# Altium schematic symbol library schematics_library_legacy.schlib: 63 symbols
Pins are listed as number, name and electrical type; pins without a type are passive.

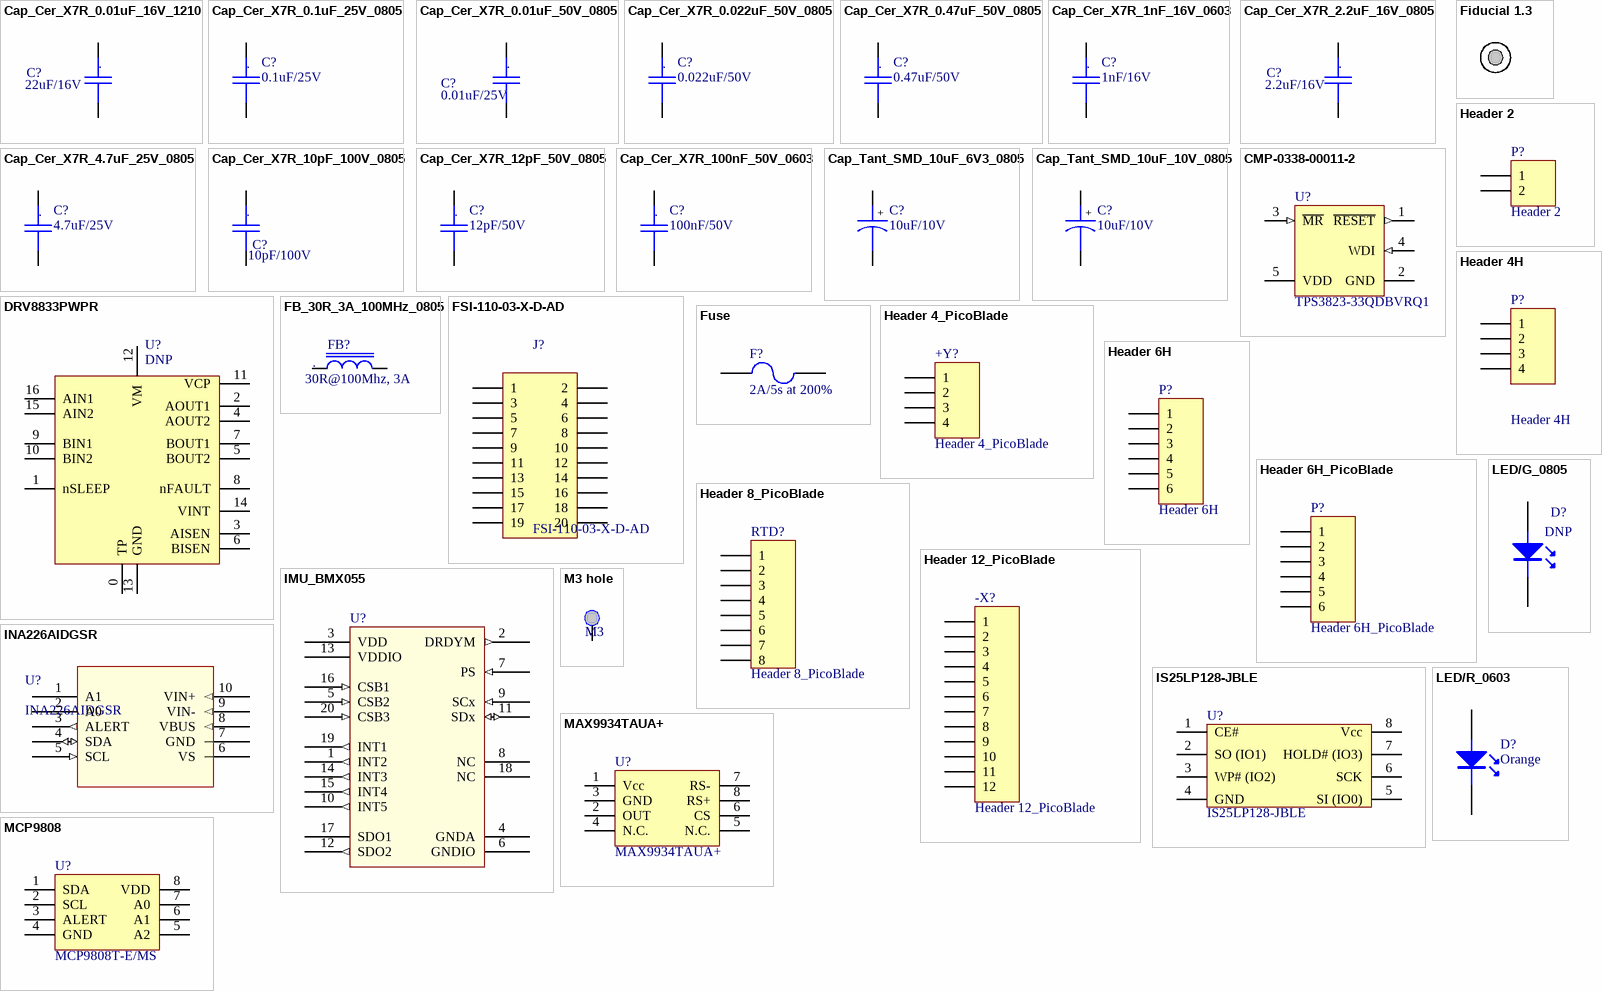
[diagram p0: symbols Cap_Cer_X7R_0.01uF_16V_1210 to MCP9808]

## Cap_Cer_X7R_0.01uF_16V_1210
designator C?, comment 22uF/16V
CAP CER 22uF 16V 10% X7R 1210; Partnumber: CRCW08051M00FKEAC; NCM: 8532.24.10
footprint CC1210 (TDK mlccspec_commercial_general_midvoltage_en.pdf)
pins: 1, 2
text: .

## Cap_Cer_X7R_0.1uF_25V_0805
designator C?, comment 0.1uF/25V
CAP CER 0.1UF 25V 10% X7R 0805; Partnumber: CC0805KRX7R8BB104; NCM: 8532.24.10
footprint CC0805 (TDK mlccspec_commercial_general_midvoltage_en.pdf)
pins: 1, 2
text: .

## Cap_Cer_X7R_0.01uF_50V_0805
designator C?, comment 0.01uF/25V
CAP CER 0.01uF 25V 10% X7R 0805; Partnumber: CL21B103KAANNNC; NCM: 8532.24.10
footprint CC0805 (TDK mlccspec_commercial_general_midvoltage_en.pdf)
pins: 1, 2
text: .

## Cap_Cer_X7R_0.022uF_50V_0805
designator C?, comment 0.022uF/50V
CAP CER 0.022UF 50V 5% X7R 0805; Partnumber: CGA4J2C0G1H223J125AA; NCM: 8532.24.10
footprint CC0805 (TDK mlccspec_commercial_general_midvoltage_en.pdf)
pins: 1, 2
text: .

## Cap_Cer_X7R_0.47uF_50V_0805
designator C?, comment 0.47uF/50V
CAP CER 0.47UF 50V 10% X7R 0805; Partnumber: C0805C474K5RACTU; NCM: 8532.24.10
footprint CC0805 (TDK mlccspec_commercial_general_midvoltage_en.pdf)
pins: 1, 2
text: .

## Cap_Cer_X7R_1nF_16V_0603
designator C?, comment 1nF/16V
CAP CER 1nF 16V 0603 5%; Partnumber: C0603X102J4RECAUTO; NCM: 8532.24.10
footprint CC0805
pins: 1, 2
text: .

## Cap_Cer_X7R_2.2uF_16V_0805
designator C?, comment 2.2uF/16V
CAP CER 2.2uF 16V 10% X7R 0805; Partnumber: EMF212B7225KGHT
footprint CC0805 (TDK mlccspec_commercial_general_midvoltage_en.pdf)
pins: 1, 2
text: .

## Cap_Cer_X7R_4.7uF_25V_0805
designator C?, comment 4.7uF/25V
CAP CER 4.7UF 25V 10% X7R 0805; Partnumber: C0805C475K3RACAUTO; NCM: 8532.24.10
footprint CC0805 (TDK mlccspec_commercial_general_midvoltage_en.pdf)
pins: 1, 2
text: .

## Cap_Cer_X7R_10pF_100V_0805
designator C?, comment 10pF/100V
CAP CER 10pF 100V 0805; Partnumber: 08051A100FAT2A; NCM: 8532.24.10
footprint CC0805 (TDK mlccspec_commercial_general_midvoltage_en.pdf)
pins: 1, 2
text: .

## Cap_Cer_X7R_12pF_50V_0805
designator C?, comment 12pF/50V
CAP CER 12pF 50V 0805; Partnumber: CL21C120FBANNNC; NCM: 8532.24.10
footprint CC0805 (TDK mlccspec_commercial_general_midvoltage_en.pdf)
pins: 1, 2
text: .

## Cap_Cer_X7R_100nF_50V_0603
designator C?, comment 100nF/50V
CAP CER 100nF 50V 0603 10%; Partnumber: C0603C104K5RAC3121; NCM: 8532.24.10
footprint CC0805
pins: 1, 2
text: .

## Cap_Tant_SMD_10uF_6V3_0805
designator C?, comment 10uF/10V
CAP Tantalum 10uF 6.3V 10% 0805; Partnumber: TPSR106K006R1000; NCM: 8532.21.11
footprint CC0805_Tantalum (TDK mlccspec_commercial_general_midvoltage_en.pdf)
pins: 1, 2
text: +

## Cap_Tant_SMD_10uF_10V_0805
designator C?, comment 10uF/10V
CAP Tantalum 10uF 10V 20% 0805; Partnumber: TPSP106M010R2000; NCM: 8532.21.11
footprint CC0805_Tantalum (TDK mlccspec_commercial_general_midvoltage_en.pdf)
pins: 1, 2
text: +

## CMP-0338-00011-2
designator U?, comment TPS3823-33QDBVRQ1
Processor Supervisory Circuit, 1 Supply Monitored, -40 to 85 degC, 5-Pin SOT-23 (DBV), Green (RoHS & no Sb/Br); Manufacturer: Texas Instruments; Iq: 15 uA Typ.; Threshold Voltage: 2.93 V Typ.; Watchdog Timer WDI: 0.2 s; VCC: 1.1 V Min.; Reset Threshold Accuracy: 2.4%; Rating: Catalog; Time Delay: 25 ms; # of Supplies Monitored: 1; Output Driver Type / Reset Output: Active-low, Push-pull; Packing: Tape and Reel; ComponentLink1Description: Manufacturer URL; RoHS: TRUE; PackageDescription: 5-Pin Plastic Small Outline, Body 1.6 x 2.9 mm, Pitch 0.95 mm; Mounting Technology: Surface Mount; ComponentLink1URL: www.ti.com; PackageReference: DBV0005A; ComponentLink3URL: http://www.ti.com/lit/ml/mpds018j/mpds018j.pdf; ComponentLink3Description: Package Specification; PartNumber: TPS3823-33QDBVRQ1; DatasheetVersion: SLVS165J; ComponentLink2Description: Datasheet; PackageVersion: 4073253-4/L; ComponentLink2URL: http://www.ti.com/lit/ds/symlink/tps3820-33.pdf; Operating Temperature Range: -40 to 85 degC
footprint DBV0005A_L (SOT23, 5-Leads, Body 3.05x1.75mm, Pitch 0.95mm, IPC High Density)
footprint DBV0005A_M (SOT23, 5-Leads, Body 3.05x1.75mm, Pitch 0.95mm, IPC Low Density)
footprint DBV0005A_N (SOT23, 5-Leads, Body 3.05x1.75mm, Pitch 0.95mm, IPC Medium Density)
pins: 1 ~{RESET} (out), 2 GND (power), 3 ~{MR} (in), 4 WDI (in), 5 VDD (power)

## DRV8833PWPR
designator U?, comment DNP
DRV8833PWPR; Partnumber: DRV8833PWPR
footprint 16TTSSOP
pins: 0 TP, 1 nSLEEP, 2 AOUT1, 3 AISEN, 4 AOUT2, 5 BOUT2, 6 BISEN, 7 BOUT1, 8 nFAULT, 9 BIN1, 10 BIN2, 11 VCP, 12 VM, 13 GND, 14 VINT, 15 AIN2, 16 AIN1

## FB_30R_3A_100MHz_0805
designator FB?, comment 30R@100Mhz, 3A
Ferrite Bead 30 OHM 3A 100MHz; Partnumber: BLM21PG300SN1D; NCM: 8504.50.00
footprint IND0805
pins: 1, 2
text: .

## Fiducial 1.3
designator FD?  (value not drawn)  (no BOM)
Fiducial 1.3mm
footprint Fiducial 1.3mm

## FSI-110-03-X-D-AD
designator J?
Contact Connector; Partnumber: FSI-110-03-G-D-AD; Value: *
footprint FSI-110-03-X-D-AD
pins: 1, 2, 3, 4, 5, 6, 7, 8, 9, 10, 11, 12, 13, 14, 15, 16, 17, 18, 19, 20

## Fuse
designator F?, comment 2A/5s at 200%
Surface Mount Fuses SMD 1206 Fast Action 2A; PartNumber: SF-1206FP200-2
footprint 1206
pins: 1, 2

## Header 2
designator P?
Header, 2-Pin; PartNumber: 826646-2; LatestRevisionDate: 17-Jul-2002; LatestRevisionNote: Re-released for DXP Platform.; Publisher: Altium Limited
signal-integrity model Connector
footprint HDR 1X2
pins: 1, 2

## Header 4_PicoBlade
designator +Y?
Header, 4-Pin; PartNumber: 53398-0471; Manufacturer: Molex; Body Plating: Tin; Number of Positions: 4; Gender: Male; Current Rating: 1A; Voltage Rating: 125V; Contact Resistance: 20mR; Insulation Resistance: 100MR; Pitch: 1.25mm; Glow Wire Compliant: Non-compliant; LatestRevisionDate: 17-Jul-2002; LatestRevisionNote: Re-released for DXP Platform.; Publisher: Altium Limited; Supplier 1: Mouser; Supplier Part Number 1: 538-53398-0471; Stock 1: 43251; Pricing 1: 1=0.98, 10=0.832, 100=0.716, 500=0.6, 1000=0.391, 2000=0.342 (USD); Mount: Surface Mount; Contact Plating: Tin; Contact Material: Bronze,Tin,Brass; Color: Natural; Housing Material: Nylon; Housing Color: Natural; Min Operating Temperature: -40°C; Max Operating Temperature: 85°C; Termination: Solder; Number of Rows: 1; Packaging: Tape and Reel; Number of Contacts: 4; Orientation: Vertical; Package Quantity: 1000; Number of Circuits: 4; Voltage Rating (AC): 125V; Working Voltage: 125V; Voltage Rating (DC): 125V; Lead Pitch: 1.25mm; Radiation Hardening: No; REACH SVHC: Unknown; Lead Free: Lead Free; Flammability Rating: UL94 V-0; ComponentLink1URL: http://www.mouser.com/ds/2/276/0533980471_PCB_HEADERS-171069.pdf?src-supplier=Mouser; ComponentLink1Description: http://www.mouser.com/ds/2/276/0533980471_PCB_HEADERS-171069.pdf?src-supplier=Mouser; ComponentLink2URL: http://www.jameco.com/Jameco/Products/ProdDS/1932627.pdf?src-supplier=Jameco; ComponentLink2Description: http://www.jameco.com/Jameco/Products/ProdDS/1932627.pdf?src-supplier=Jameco; ComponentLink3URL: https://www.distrelec.biz/Web/Downloads/46/_e/gf116833-116846_e.pdf?mime=application%2Fpdf&src-supplier=Distrelec; ComponentLink3Description: https://www.distrelec.biz/Web/Downloads/46/_e/gf116833-116846_e.pdf?mime=application%2Fpdf&src-supplier=Distrelec; ComponentLink4URL: http://www.molex.com/webdocs/datasheets/pdf/en-us/0533980471_PCB_HEADERS.pdf?src-supplier=Element14; ComponentLink4Description: http://www.molex.com/webdocs/datasheets/pdf/en-us/0533980471_PCB_HEADERS.pdf?src-supplier=Element14; ComponentLink5URL: http://www.farnell.com/datasheets/1867381.pdf?src-supplier=Element14; ComponentLink5Description: http://www.farnell.com/datasheets/1867381.pdf?src-supplier=Element14; ComponentLink6URL: http://uk.rs-online.com/webdocs/13c4/0900766b813c4500.pdf?src-supplier=RSComponents; ComponentLink6Description: http://uk.rs-online.com/webdocs/13c4/0900766b813c4500.pdf?src-supplier=RSComponents; ComponentLink7URL: http://www.molex.com/webdocs/datasheets/pdf/en-us/0533980471_PCB_HEADERS.pdf?src-supplier=Farnell; ComponentLink7Description: http://www.molex.com/webdocs/datasheets/pdf/en-us/0533980471_PCB_HEADERS.pdf?src-supplier=Farnell; ComponentLink8URL: http://www.farnell.com/datasheets/2697809.pdf?src-supplier=Element14; ComponentLink8Description: http://www.farnell.com/datasheets/2697809.pdf?src-supplier=Element14; ComponentLink9URL: http://www.molex.com/webdocs/datasheets/pdf/en-us/0533980471_PCB_HEADERS.pdf?src-supplier=Avnet; ComponentLink9Description: http://www.molex.com/webdocs/datasheets/pdf/en-us/0533980471_PCB_HEADERS.pdf?src-supplier=Avnet; ComponentLink10URL: http://www.molex.com/webdocs/datasheets/pdf/en-us/0533980471_PCB_HEADERS.pdf?src-supplier=Avnet+Europe; ComponentLink10Description: http://www.molex.com/webdocs/datasheets/pdf/en-us/0533980471_PCB_HEADERS.pdf?src-supplier=Avnet+Europe; Supplier 2: Digi-Key; Supplier Part Number 2: WM7608CT-ND; Stock 2: 20817; Pricing 2: 1=1.19, 10=1.044, 100=0.901, 500=0.73716 (USD); Manufacturer Part Number: 53398-0471
footprint HDR4 PicoBlade
signal-integrity model Connector
pins: 1, 2, 3, 4

## Header 4H
designator P?
Header, 4-Pin; LatestRevisionDate: 17-Jul-2002; LatestRevisionNote: Re-released for DXP Platform.; Publisher: Altium Limited
signal-integrity model Connector
footprint HDR1X4 (Connector; Header; 4 Position)
pins: 1, 2, 3, 4

## Header 6H
designator P?
Header, 6-Pin, Right Angle; LatestRevisionDate: 17-Jul-2002; LatestRevisionNote: Re-released for DXP Platform.; Publisher: Altium Limited
footprint HDR1X6H (Connector; Header; 6 Position; Right Angle)
signal-integrity model Connector
pins: 1, 2, 3, 4, 5, 6

## Header 6H_PicoBlade
designator P?
Header, 6-Pin, Right Angle; Partnumber: 53398-0671; LatestRevisionDate: 17-Jul-2002; LatestRevisionNote: Re-released for DXP Platform.; Publisher: Altium Limited
footprint HDR6 PicoBlade
signal-integrity model Connector
pins: 1, 2, 3, 4, 5, 6

## Header 8_PicoBlade
designator RTD?
Header, 8-Pin; PartNumber: 53261-0871; Manufacturer: Molex; Number of Contacts: 8; Contact Resistance: 20mR; Gender: Male; Current Rating: 1A; Voltage Rating: 125V; Insulation Resistance: 100MR; Pitch: 1.25mm; Glow Wire Compliant: Non-compliant; LatestRevisionDate: 17-Jul-2002; LatestRevisionNote: Re-released for DXP Platform.; Publisher: Altium Limited; Supplier 1: Mouser; Supplier Part Number 1: 538-53261-0871; Stock 1: 13055; Pricing 1: 1=1.31, 10=1.15, 100=0.991, 500=0.832, 1000=0.42, 2000=0.367 (USD); Mount: Surface Mount; Contact Plating: Tin; Contact Material: Bronze,Brass,Tin; Color: Beige; Housing Material: Thermoplastic; Min Operating Temperature: -40°C; Max Operating Temperature: 85°C; Termination: Solder; Number of Rows: 1; Orientation: Right Angle; Packaging: Tape and Reel; Number of Positions: 8; Package Quantity: 1000; Number of Circuits: 8; Voltage Rating (AC): 125V; Working Voltage: 125V; Voltage Rating (DC): 125V; Lead Pitch: 1.25mm; Radiation Hardening: No; REACH SVHC: Unknown; Lead Free: Lead Free; Flammability Rating: UL94 V-0; ComponentLink1URL: http://uk.rs-online.com/webdocs/13c4/0900766b813c44c3.pdf?src-supplier=RSComponents; ComponentLink1Description: http://uk.rs-online.com/webdocs/13c4/0900766b813c44c3.pdf?src-supplier=RSComponents; ComponentLink2URL: http://www.farnell.com/datasheets/1632136.pdf?src-supplier=Element14; ComponentLink2Description: http://www.farnell.com/datasheets/1632136.pdf?src-supplier=Element14; ComponentLink3URL: http://www.farnell.com/datasheets/1862905.pdf?src-supplier=Element14; ComponentLink3Description: http://www.farnell.com/datasheets/1862905.pdf?src-supplier=Element14; ComponentLink4URL: http://www.onlinecomponents.com/productFiles/mf-MOL/0532610871_pcb_headers.pdf?src-supplier=Onlinecomponents.com; ComponentLink4Description: http://www.onlinecomponents.com/productFiles/mf-MOL/0532610871_pcb_headers.pdf?src-supplier=Onlinecomponents.com; ComponentLink5URL: http://www.jameco.com/Jameco/Products/ProdDS/1932580.pdf?src-supplier=Jameco; ComponentLink5Description: http://www.jameco.com/Jameco/Products/ProdDS/1932580.pdf?src-supplier=Jameco; ComponentLink6URL: https://www.distrelec.biz/Web/Downloads/74/_e/gh116861-116874_e.pdf?mime=application%2Fpdf&src-supplier=Distrelec; ComponentLink6Description: https://www.distrelec.biz/Web/Downloads/74/_e/gh116861-116874_e.pdf?mime=application%2Fpdf&src-supplier=Distrelec; ComponentLink7URL: http://www.mouser.com/ds/2/276/0532610871_PCB_HEADERS-171054.pdf?src-supplier=Mouser; ComponentLink7Description: http://www.mouser.com/ds/2/276/0532610871_PCB_HEADERS-171054.pdf?src-supplier=Mouser; ComponentLink8URL: http://www.molex.com/webdocs/datasheets/pdf/en-us/0532610871_PCB_HEADERS.pdf?src-supplier=Avnet+Europe; ComponentLink8Description: http://www.molex.com/webdocs/datasheets/pdf/en-us/0532610871_PCB_HEADERS.pdf?src-supplier=Avnet+Europe; ComponentLink9URL: http://www.farnell.com/datasheets/1841157.pdf?src-supplier=Farnell; ComponentLink9Description: http://www.farnell.com/datasheets/1841157.pdf?src-supplier=Farnell; ComponentLink10URL: http://www.molex.com/webdocs/datasheets/pdf/en-us/0532610871_PCB_HEADERS.pdf?src-supplier=Avnet; ComponentLink10Description: http://www.molex.com/webdocs/datasheets/pdf/en-us/0532610871_PCB_HEADERS.pdf?src-supplier=Avnet; Supplier 2: Digi-Key; Supplier Part Number 2: WM7626CT-ND; Stock 2: 24265; Pricing 2: 1=1.64, 10=1.487, 100=1.2749, 500=1.0624 (USD); Manufacturer Part Number: 53261-0871
footprint HDR8 PicoBlade
signal-integrity model Connector
pins: 1, 2, 3, 4, 5, 6, 7, 8

## Header 12_PicoBlade
designator -X?
Header, 12-Pin; PartNumber: 53398-1271; LatestRevisionDate: 17-Jul-2002; LatestRevisionNote: Re-released for DXP Platform.; Publisher: Altium Limited
footprint HDR12 PicoBlade - duplicate
pins: 1, 2, 3, 4, 5, 6, 7, 8, 9, 10, 11, 12

## IMU_BMX055
designator U?
footprint LGA20
pins: 1 INT2 (out), 2 DRDYM (out), 3 VDD, 4 GNDA, 5 CSB2 (in), 6 GNDIO, 7 PS (in), 8 NC, 9 SCx (in) "SCK/SCL", 10 INT5 (out), 11 SDx (io) "SDA/SDI", 12 SDO2 (out) "SPI Serial data out gyro, addr select in i2c mode", 13 VDDIO, 14 INT3 (out), 15 INT4 (out), 16 CSB1 (in) "Chip Select", 17 SDO1 "Serial data out acces/mag sensor", 18 NC, 19 INT1 (out), 20 CSB3 (in) "Chip select magnet sensor"

## INA226AIDGSR
designator U?
High-Side Measurement, Bi-Directional Current/Power Monitor w/I2C Interface; Manufacturer: Texas Instruments; GENERIC_PART_NUMBER: INA226; INDUSTRY_STD_PKG_TYPE: MSOP; FAMILY_NAME: CURRENT SHUNT MONITOR; PIN_COUNT: 10; PACKAGE_DESIGNATOR: DGS; Datasheet_URL: http://www.ti.com/lit/gpn/INA226; Vendor: Texas Instruments; Manufacturer_Part_Number: INA226AIDGSR; Copyright: Copyright (C) 2018 Accelerated Designs. All rights reserved; RefDes: RefDes; Type: DEV
footprint DGS10
pins: 1 A1, 2 A0, 3 ALERT (out), 4 SDA (io), 5 SCL (in), 6 VS (power), 7 GND (power), 8 VBUS (in), 9 VIN- (in), 10 VIN+ (in)

## IS25LP128-JBLE
designator U?
IC FLASH 128MBIT 133MHZ 8SOIC; Partnumber: IS25LP128-JBLE
footprint SOIC8
pins: 1 CE#, 2 SO (IO1), 3 WP# (IO2), 4 GND, 5 SI (IO0), 6 SCK, 7 HOLD# (IO3), 8 Vcc

## LED/G_0805
designator D?, comment DNP
SMD Green LED; Partnumber: LTST-C171GKT; NCM: 8541.40.21
footprint 0805-LED
pins: 1 A, 2 K

## LED/R_0603
designator D?, comment Orange
SMD Orange LED; Partnumber: LTST-C170KFKT; NCM: 8541.40.21
footprint 0805-LED
pins: 1 A, 2 K

## M3 hole
designator MEC?, comment M3  (no BOM)
M3 hole
footprint M3 hole
pins: 0

## MAX9934TAUA+
designator U?
Partnumber: MAX9934TAUA+
footprint MSOP-8 (8-Lead Mini Small Outline Package [MSOP] (RM-8))
pins: 1 Vcc, 2 OUT, 3 GND, 4 N.C., 5 N.C., 6 CS, 7 RS-, 8 RS+

## MCP9808
designator U?, comment MCP9808T-E/MS
Partnumber: MCP9808T-E/MS
footprint MSOP-8 (8-Lead Mini Small Outline Package [MSOP] (RM-8))
pins: 1 SDA, 2 SCL, 3 ALERT, 4 GND, 5 A2, 6 A1, 7 A0, 8 VDD

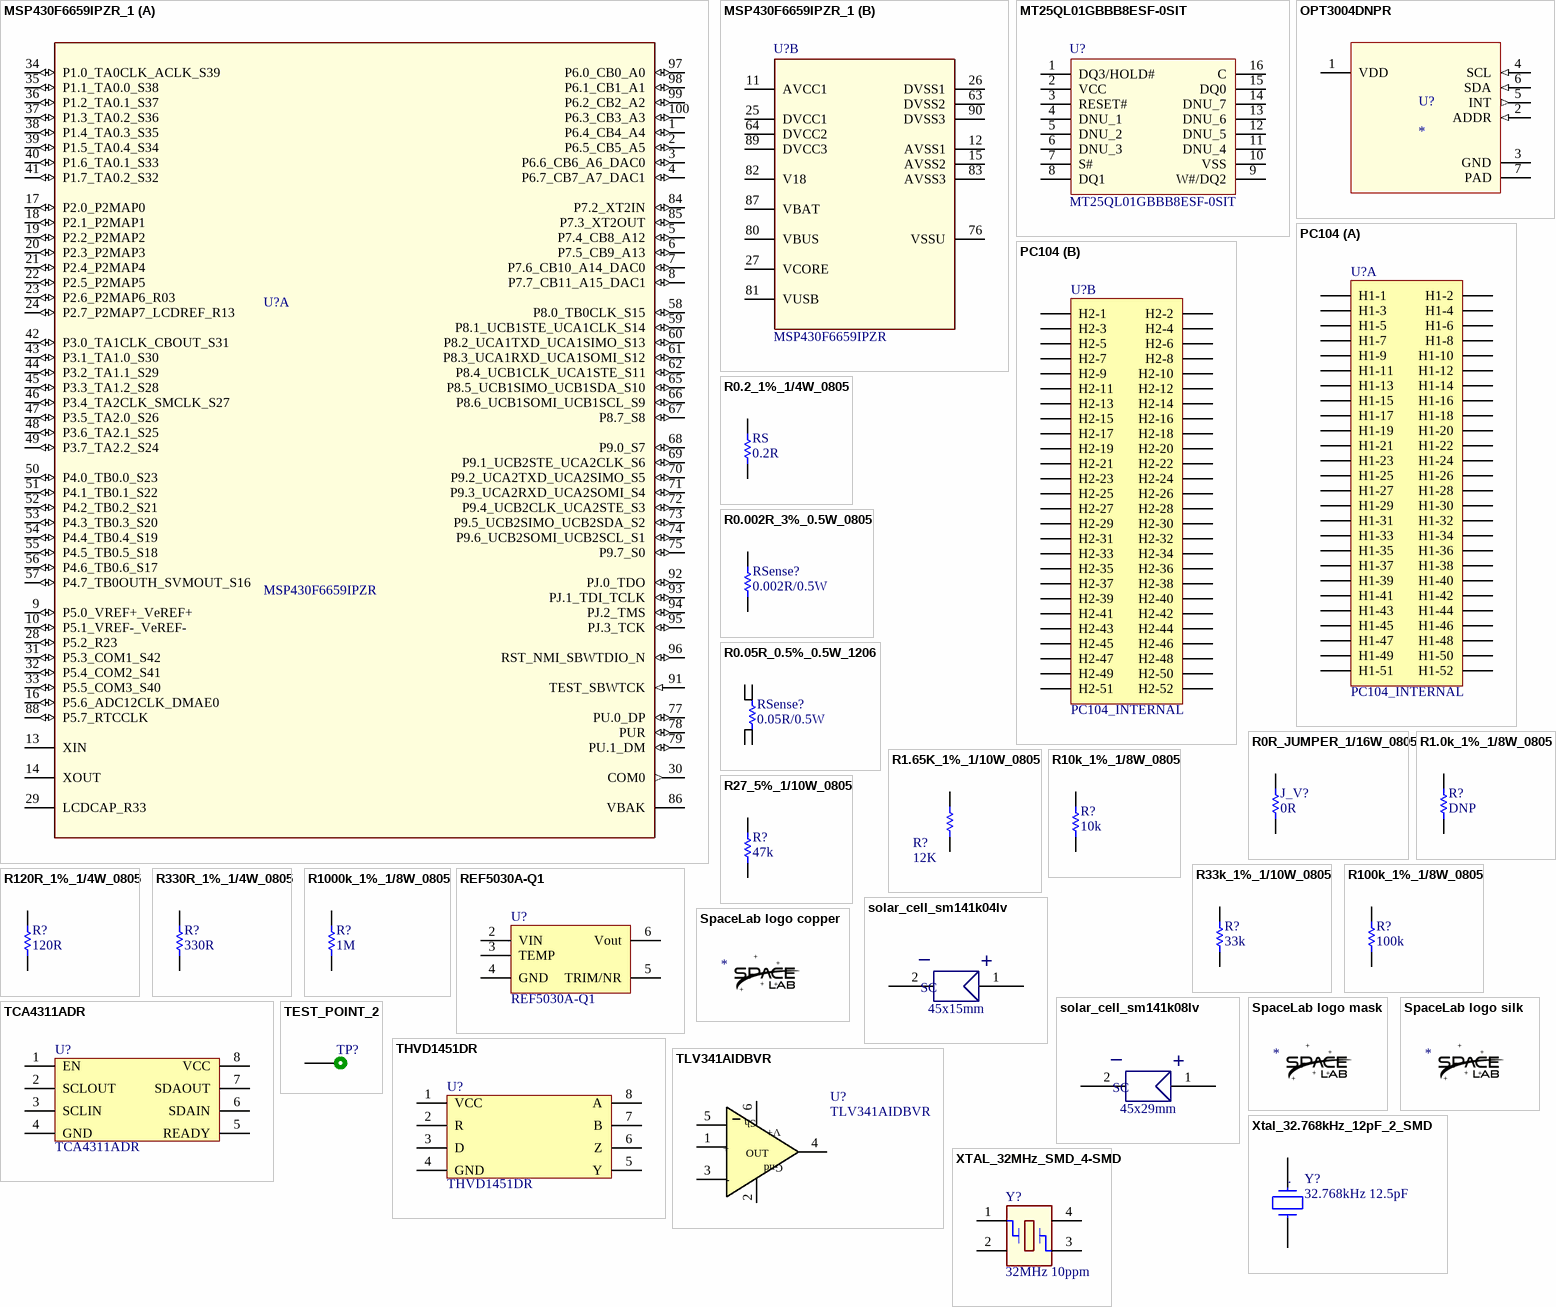
[diagram p1: symbols MSP430F6659IPZR_1 to XTAL_32MHz_SMD_4-SMD]

## MSP430F6659IPZR_1
designator U?, comment MSP430F6659IPZR
Imported; Manufacturer: Texas Instruments; CompType: IC; PIN_COUNT: 100; Application_BuildNumber: *; PartNumber: MSP430F6659IPZR; Alternate PartNumber: MSP430F6659IPZ; PackageReference: PZ0100A; MountType: SMT; RoHS: Y; RefDes: RefDes; Type: DEV; Value: Value
footprint PZ0100A_N (Footprint not found)
part A pins: 1 P6.4_CB4_A4 (io), 2 P6.5_CB5_A5 (io), 3 P6.6_CB6_A6_DAC0 (io), 4 P6.7_CB7_A7_DAC1 (io), 5 P7.4_CB8_A12 (io), 6 P7.5_CB9_A13 (io), 7 P7.6_CB10_A14_DAC0 (io), 8 P7.7_CB11_A15_DAC1 (io), 9 P5.0_VREF+_VeREF+ (io), 10 P5.1_VREF-_VeREF- (io), 13 XIN, 14 XOUT, 16 P5.6_ADC12CLK_DMAE0 (io), 17 P2.0_P2MAP0 (io), 18 P2.1_P2MAP1 (io), 19 P2.2_P2MAP2 (io), 20 P2.3_P2MAP3 (io), 21 P2.4_P2MAP4 (io), 22 P2.5_P2MAP5 (io), 23 P2.6_P2MAP6_R03 (io), 24 P2.7_P2MAP7_LCDREF_R13 (io), 28 P5.2_R23 (io), 29 LCDCAP_R33, 30 COM0 (out), 31 P5.3_COM1_S42 (io), 32 P5.4_COM2_S41 (io), 33 P5.5_COM3_S40 (io), 34 P1.0_TA0CLK_ACLK_S39 (io), 35 P1.1_TA0.0_S38 (io), 36 P1.2_TA0.1_S37 (io), 37 P1.3_TA0.2_S36 (io), 38 P1.4_TA0.3_S35 (io), 39 P1.5_TA0.4_S34 (io), 40 P1.6_TA0.1_S33 (io), 41 P1.7_TA0.2_S32 (io), 42 P3.0_TA1CLK_CBOUT_S31 (io), 43 P3.1_TA1.0_S30 (io), 44 P3.2_TA1.1_S29 (io), 45 P3.3_TA1.2_S28 (io), 46 P3.4_TA2CLK_SMCLK_S27 (io), 47 P3.5_TA2.0_S26 (io), 48 P3.6_TA2.1_S25 (io), 49 P3.7_TA2.2_S24 (io), 50 P4.0_TB0.0_S23 (io), 51 P4.1_TB0.1_S22 (io), 52 P4.2_TB0.2_S21 (io), 53 P4.3_TB0.3_S20 (io), 54 P4.4_TB0.4_S19 (io), 55 P4.5_TB0.5_S18 (io), 56 P4.6_TB0.6_S17 (io), 57 P4.7_TB0OUTH_SVMOUT_S16 (io), 58 P8.0_TB0CLK_S15 (io), 59 P8.1_UCB1STE_UCA1CLK_S14 (io), 60 P8.2_UCA1TXD_UCA1SIMO_S13 (io), 61 P8.3_UCA1RXD_UCA1SOMI_S12 (io), 62 P8.4_UCB1CLK_UCA1STE_S11 (io), 65 P8.5_UCB1SIMO_UCB1SDA_S10 (io), 66 P8.6_UCB1SOMI_UCB1SCL_S9 (io), 67 P8.7_S8 (io), 68 P9.0_S7 (io), 69 P9.1_UCB2STE_UCA2CLK_S6 (io), 70 P9.2_UCA2TXD_UCA2SIMO_S5 (io), 71 P9.3_UCA2RXD_UCA2SOMI_S4 (io), 72 P9.4_UCB2CLK_UCA2STE_S3 (io), 73 P9.5_UCB2SIMO_UCB2SDA_S2 (io), 74 P9.6_UCB2SOMI_UCB2SCL_S1 (io), 75 P9.7_S0 (io), 77 PU.0_DP (io), 78 PUR (io), 79 PU.1_DM (io), 84 P7.2_XT2IN (io), 85 P7.3_XT2OUT (io), 86 VBAK, 88 P5.7_RTCCLK (io), 91 TEST_SBWTCK (in), 92 PJ.0_TDO (io), 93 PJ.1_TDI_TCLK (io), 94 PJ.2_TMS (io), 95 PJ.3_TCK (io), 96 RST_NMI_SBWTDIO_N (io), 97 P6.0_CB0_A0 (io), 98 P6.1_CB1_A1 (io), 99 P6.2_CB2_A2 (io), 100 P6.3_CB3_A3 (io)
part B pins: 11 AVCC1 (power), 12 AVSS1 (power), 15 AVSS2 (power), 25 DVCC1 (power), 26 DVSS1, 27 VCORE (power), 63 DVSS2 (power), 64 DVCC2 (power), 76 VSSU (power), 80 VBUS (power), 81 VUSB (power), 82 V18 (power), 83 AVSS3 (power), 87 VBAT (power), 89 DVCC3 (power), 90 DVSS3

## MT25QL01GBBB8ESF-0SIT
designator U?
IC FLASH 1GBIT 108MHZ 16SOIC; Manufacturer_Name: Micron; Geometry.Height: 2.65mm; Partnumber: MT25QL01GBBB8ESF-0SIT; Mouser Part Number: 340-278808-TRAY; Mouser Price/Stock: https://www.mouser.com/Search/Refine.aspx?Keyword=340-278808-TRAY; RS Part Number: *; RS Price/Stock: *; Datasheet Link: https://www.micron.com/~/media/documents/products/data-sheet/nor-flash/serial-nor/mt25q/die-rev-b/mt25q_qlkt_l_01g_bbb_0.pdf
footprint SOIC127P1032X265-16N
pins: 1 DQ3/HOLD#, 2 VCC, 3 RESET#, 4 DNU_1, 5 DNU_2, 6 DNU_3, 7 S#, 8 DQ1, 9 W#/DQ2, 10 VSS, 11 DNU_4, 12 DNU_5, 13 DNU_6, 14 DNU_7, 15 DQ0, 16 C

## OPT3004DNPR
designator U?
No Description Available; PartNumber: OPT3004DNPR; Manufacturer: Texas Instruments; RefDes: RefDes; Type: DEV; Value: Value; Copyright: Copyright (C) 2018 Accelerated Designs. All rights reserved
footprint DNP0006A
pins: 1 VDD (power), 2 ADDR (in), 3 GND (power), 4 SCL (in), 5 INT (out), 6 SDA (in), 7 PAD

## PC104
designator U?, comment PC104_INTERNAL
PC104; Partnumber: SSW-126-04-G-D
footprint PC104 (Connector; Header; 26x4 Position)
part A pins: H1-1, H1-2, H1-3, H1-4, H1-5, H1-6, H1-7, H1-8, H1-9, H1-10, H1-11, H1-12, H1-13, H1-14, H1-15, H1-16, H1-17, H1-18, H1-19, H1-20, H1-21, H1-22, H1-23, H1-24, H1-25, H1-26, H1-27, H1-28, H1-29, H1-30, H1-31, H1-32, H1-33, H1-34, H1-35, H1-36, H1-37, H1-38, H1-39, H1-40, H1-41, H1-42, H1-43, H1-44, H1-45, H1-46, H1-47, H1-48, H1-49, H1-50, H1-51, H1-52
part B pins: H2-1, H2-2, H2-3, H2-4, H2-5, H2-6, H2-7, H2-8, H2-9, H2-10, H2-11, H2-12, H2-13, H2-14, H2-15, H2-16, H2-17, H2-18, H2-19, H2-20, H2-21, H2-22, H2-23, H2-24, H2-25, H2-26, H2-27, H2-28, H2-29, H2-30, H2-31, H2-32, H2-33, H2-34, H2-35, H2-36, H2-37, H2-38, H2-39, H2-40, H2-41, H2-42, H2-43, H2-44, H2-45, H2-46, H2-47, H2-48, H2-49, H2-50, H2-51, H2-52

## R0.2_1%_1/4W_0805
designator RS, comment 0.2R
RES 0.2R OHM 1/4W 1% 0805 /; Partnumber: ERJ-U6SFR20V; NCM: 8533.21.20
footprint 0805
pins: 1, 2

## R0.002R_3%_0.5W_0805
designator RSense?, comment 0.002R/0.5W
Current Sense Resistors - SMD 0.002 ohm 3% 0.5W Current Sense; Partnumber: LVT08R0020HER
pins: 1, 2

## R0.05R_0.5%_0.5W_1206
designator RSense?, comment 0.05R/0.5W
Current Sense Resistors - SMD 0.05ohm .5% 4 Terminal; Partnumber: LVK12R050DER; NCM: 8533.21.20
footprint 1206 - ohmite
pins: 1, 2, 3, 4

## R0R_JUMPER_1/16W_0805
designator J_V?, comment 0R
RES 0R OHM 1/16W JUMPER 0805; Partnumber: CRCW08050000Z0EA; NCM: 8533.21.20
footprint 0805
pins: 1, 2

## R1.0k_1%_1/8W_0805
designator R?, comment DNP
RES 1.0K OHM 1/8W 1% 0805; Partnumber: RC0805FR-071KL; NCM: 8533.21.20
footprint 0805
pins: 1, 2

## R1.65K_1%_1/10W_0805
designator R?, comment 12K
RES 1.65K OHM 1/10W 0.1% 0805; Partnumber: PCF0805R-1K65BT1; NCM: 8533.21.20
footprint 0805
pins: 1, 2

## R10k_1%_1/8W_0805
designator R?, comment 10k
RES 10K OHM 1/8W 1%  0805; Partnumber: CRCW080510K0FKEA; NCM: 8533.21.20
footprint 0805
pins: 1, 2

## R27_5%_1/10W_0805
designator R?, comment 47k
RES 47k OHM 1/10W 1% 0805; Partnumber: RC0805FR-0747KL; NCM: 8533.21.20
footprint 0805
pins: 1, 2

## R33k_1%_1/10W_0805
designator R?, comment 33k
RES 33K OHM 1/10W 1% 0805; Partnumber: RC0805FR-0733KL; NCM: 8533.21.20
footprint 0805
pins: 1, 2

## R100k_1%_1/8W_0805
designator R?, comment 100k
RES 100K OHM 1/8W 1% 0805; Partnumber: AC0805FR-13100KL; NCM: 8533.21.20
footprint 0805
pins: 1, 2

## R120R_1%_1/4W_0805
designator R?, comment 120R
RES 120R OHM 1/8W 1% 0805; Partnumber: CRGCQ0805F120R; NCM: 8533.21.20
footprint 0805
pins: 1, 2

## R330R_1%_1/4W_0805
designator R?, comment 330R
RES 330R OHM 1/4W 1% 0805; Partnumber: RC0805FR-07330RL; NCM: 8533.21.20
footprint 0805
pins: 1, 2

## R1000k_1%_1/8W_0805
designator R?, comment 1M
RES 1000K OHM 1/8W 1% 0805; Partnumber: AC0805FR-13100KL; NCM: 8533.21.20
footprint 0805
pins: 1, 2

## REF5030A-Q1
designator U?
Partnumber: REF5030A-Q1
footprint SOIC-8 (SOIC, 8-Leads, Body 4,89x3,90mm, Pitch 1,27mm, IPC Medium Density)
pins: 2 VIN, 3 TEMP, 4 GND, 5 TRIM/NR, 6 Vout

## solar_cell_sm141k04lv
designator SC, comment size: 45x15mm  (hidden comment: SC)
sm141k04lv; partnumber: sm141k04lv; Part Number: sm141k04lv
footprint 45x15mm_cell
pins: 1 V+ (power), 2 V- (power)
text: _; +

## solar_cell_sm141k08lv
designator SC, comment size: 45x29mm  (hidden comment: SC)
sm141k08lv; partnumber: sm141k08lv; Part Number: sm141k08lv
footprint 45x29mm_cell
pins: 1 V+ (power), 2 V- (power)
text: _; +

## SpaceLab logo copper
designator COP?  (no BOM)
SpaceLab logo on copper layer
footprint SpaceLab logo copper

## SpaceLab logo mask
designator MASK?  (no BOM)
SpaceLab logo on solder mask layer
footprint SpaceLab logo mask

## SpaceLab logo silk
designator SILK?  (no BOM)
SpaceLab logo on silk screen layer
footprint SpaceLab logo silk

## TCA4311ADR
designator U?
IC SIGNAL BUFFER I2C 8SOIC; Partnumber: TCA4311ADR
footprint SOIC8
pins: 1 EN, 2 SCLOUT, 3 SCLIN, 4 GND, 5 READY, 6 SDAIN, 7 SDAOUT, 8 VCC (power)

## TEST_POINT_2
designator TP?  (value not drawn)  (no BOM)
Test point
footprint TEST_POINT_2
pins: 1

## THVD1451DR
designator U?
IC INTERFACE RS422_RS485 8SOIC; Partnumber: THVD1451DR
footprint SOIC8
pins: 1 VCC, 2 R, 3 D, 4 GND, 5 Y, 6 Z, 7 B, 8 A (power)

## TLV341AIDBVR
designator U?
Partnumber: TLV341AIDBVR
footprint SOT-23 6L
pins: 1 +IN, 2 Gnd, 3 -IN, 4 OUT, 5 EN, 6 V+
text: Sh; +; -

## Xtal_32.768kHz_12pF_2_SMD
designator Y?, comment 32.768kHz 12.5pF
32.768kHz ±20ppm Crystal 12.5pF 70 kOhm -40°C ~ 125°C; Partnumber: ECS-.327-12.5-34S-TR; NCM: 8541.60.10
footprint ABS06 0805
pins: 1, 2
text: .

## XTAL_32MHz_SMD_4-SMD
designator Y?, comment 32MHz 10ppm
32MHz ±10ppm Crystal 10pF 60 Ohm -40°C ~ 125°C; Partnumber: ABM8X-102-32.000MHZ-T; NCM: 8541.60.10
footprint XTAL_ABM8X
pins: 1, 2, 3, 4